# Altium footprint library IO PCB Lib.PcbLib: 3 footprints
Each footprint in its own frame and in the unit in brackets; x right, y up, seen from the top. Pads: shape width x height; smd on the part's side, far side on the other; paste and mask are expansions set on the pad; w line width, h text height; cw(c..) or ccw(c..) is an arc to the next point about the centre after c.
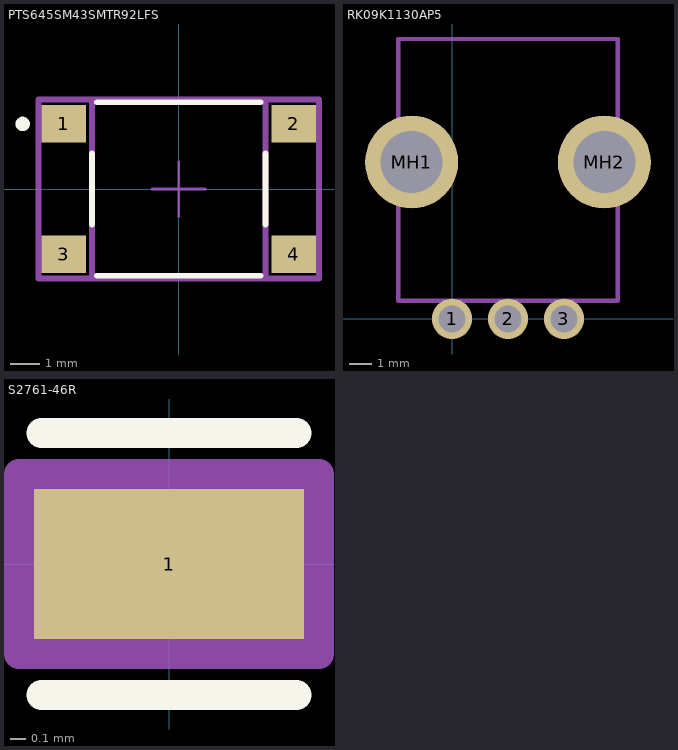
[diagram p0: the footprints below, top view; thin cyan lines are the x and y axes]

## PTS645SM43SMTR92LFS [mm]
pads (4):
  rect 1.55x1.3 smd paste+0 mask+0: 1(-3.975,2.25) 2(3.975,2.25) 3(-3.975,-2.25) 4(3.975,-2.25)
Top Overlay:
  circle w0.25: c-5.4,2.25 r0.125
  lines w0.2: -3,-1.225 -3,1.225 ; -2.825,-3 2.825,-3 ; -2.825,3 2.825,3 ; 3,-1.225 3,1.225
Top Assembly:
  lines w0.2: -4.85,-3.1 -4.85,3.1 4.85,3.1 4.85,-3.1 -4.85,-3.1
Top 3D Body:
  lines w0.2: -3,-3 -3,3 3,3 3,-3 -3,-3
Top Courtyard:
  lines w0.2: -4.85,-3.1 -4.85,3.1 4.85,3.1 4.85,-3.1 -4.85,-3.1
Top Component Center:
  lines w0.1: -0.93,0 0.93,0 ; 0,-0.93 0,0.93
3D body "PTS645SM43SMTR92LFS.stp": height 4.3, standoff 0, extent -4.5,-3 4.5,3

## RK09K1130AP5 [mm]
pads (5):
  round 1.8 hole 1.2: 1(0,0) 2(2.5,0) 3(5,0)
  round 4.155 hole 2.77: MH1(-1.8,7) MH2(6.8,7)
Top Courtyard:
  lines w0.2: -2.4,0.8 -2.4,12.5 7.4,12.5 7.4,0.8 -2.4,0.8
3D body "rk09k1130ap5.stp": height 15.3, standoff -3.4, extent -3.2,-0.15 8.2,12.5

## S2761-46R [mm]
pads (1):
  rect 1.8x1 smd paste+0 mask+0: 1(0,0)
Top Overlay:
  lines w0.2: -0.85,-0.875 0.85,-0.875 ; -0.85,0.875 0.85,0.875
Top Assembly:
  lines w0.2: -1,-0.6 -1,0.6 1,0.6 1,-0.6 -1,-0.6
Top 3D Body:
  lines w0.2: -0.85,-0.45 -0.85,0.45 0.85,0.45 0.85,-0.45 -0.85,-0.45
Top Courtyard:
  lines w0.2: -1,-0.6 -1,0.6 1,0.6 1,-0.6 -1,-0.6
Top Component Center:
  lines w0.1: -0.5,0 0.5,0 ; 0,-0.5 0,0.5
3D body "Conn_Harwin_S2761-46R_eec.STEP": height 0.25, standoff 0, extent -1,-0.6 1,0.6